# Altium schematic symbol library NX2520SA-24.000000MHZ-B8.SchLib: 1 symbol
Pins are listed as number, name and electrical type; pins without a type are passive.

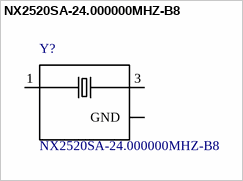
[diagram p0: symbol NX2520SA-24.000000MHZ-B8]

## NX2520SA-24.000000MHZ-B8
designator Y?
/ CRYSTAL 24.0000MHZ 10PF SMD /; MF: NDK America, Inc.; Package: SMD-4 NDK America, Inc.; MP: NX2520SA-24.000000MHZ-B8; Availability: Unavailable; SnapEDA_Link: https://www.snapeda.com/parts/NX2520SA-24.000000MHZ-B8/NDK%20America%2C%20Inc./view-part/?ref=snap; Price: None; Value: *
footprint *XTAL_NX2520SA-24.000000MHZ-B8
pins: 1, 2 GND (power), 3, 4 GND (power)